# Altium schematic symbol library 776275-1.SchLib: 1 symbol
Pins are listed as number, name and electrical type; pins without a type are passive.

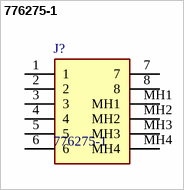
[diagram p0: symbol 776275-1]

## 776275-1
designator J?
Body Features: Primary Product Color Black | Connector & Keying Code 1 | Configuration Features: Number of Positions 8 | Number of Rows 3 | PCB Mount Orientation Vertical | Contact Features: Contact Mating Area Plating Material Tin | Contact Current Rating (Max) 8 AMP | Contact Type Pin | Housing Features: Centerline (Pitch) .157 INCH | Centerline (Pitch) 4 MM | Industry Standards: UL Flammability Rating UL 94V-0 | Mechanical Attachment: Mating Alignment With | PCB Mount Alignment With | PCB Mount Retention; Manufacturer_Name: TE Connectivity; Geometry.Height: 34.5mm; Mouser Part Number: 571-776275-1; Mouser Price/Stock: https://www.mouser.co.uk/ProductDetail/TE-Connectivity/776275-1?qs=tLAa1RwIH6f8ivWehpoZzA%3D%3D; Manufacturer_Part_Number: 776275-1; Datasheet Link: https://www.te.com/commerce/DocumentDelivery/DDEController?Action=srchrtrv&DocNm=1-1773979-2&DocType=Data%20Sheet&DocLang=English&PartCntxt=776275-1&DocFormat=pdf
footprint 7762751
pins: 1, 2, 3, 4, 5, 6, 7, 8, MH1, MH2, MH3, MH4